# Altium integrated library Displays.IntLib: 6 symbols
Pins are listed as number, name and electrical type; pins without a type are passive.

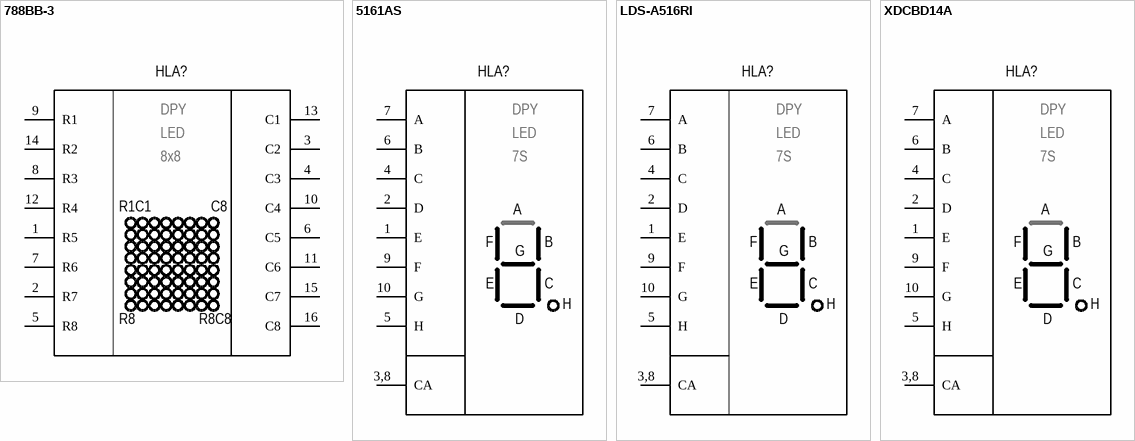
[diagram p0: symbols 788BB-3 to XDCBD14A]

## 788BB-3
designator HLA?, comment Blue  (value not drawn)
Display Segmental LED8x8 1.9mm Blue TH; Part name: 788BB-3; Group: Digital - Displays -  Segmental; Wavelength: 460nm; Common pin: Row Common Anode; Forward current: 20mA; Package: DIP-16 (15.00mm); Color: Blue; Dimension: 19.75mm x 19.75mm; Thickness: 5.90mm; Operating Temperature: -40°C +85°C; Mounting Type: Through Hole
footprint DISPLAY LED MATRIX 8x8 1.9 DIP-16
pins: 1 R5, 2 R7, 3 C2, 4 C3, 5 R8, 6 C5, 7 R6, 8 R3, 9 R1, 10 C4, 11 C6, 12 R4, 13 C1, 14 R2, 15 C7, 16 C8
text: DPY; LED; 8x8; R1C1; R8C8

## 5161AS
designator HLA?, comment Blue  (value not drawn)
Display Segmental LED7 0.56(14.22) Red CC TH; Part name: 5161AS; Group: Digital - Displays -  Segmental; Common pin: Common Anode; Forward current: 30mA; Package: DIP-10 (15.24mm); Color: Blue; Dimension: 19.05mm x 12.70mm; Thickness: 8.00mm; Operating Temperature: -40°C +85°C; Mounting Type: Through Hole
footprint Display LED Segment 7 0.56 DIP-10
pins: 1 E, 2 D, 3,8 CA, 4 C, 5 H, 6 B, 7 A, 9 F, 10 G
text: DPY; LED; 7S

## LDS-A516RI
designator HLA?, comment Red  (value not drawn)
Display Segmental LED7 0.56(14.22) Red CA TH; Manufacturer: Lumex; Part name: LDS-A516RI; Group: Digital - Displays -  Segmental; Common pin: Common Anode; Forward current: 30mA; Package: DIP-10 (15.24mm); Color: Red; Dimension: 19.05mm x 12.70mm; Thickness: 8.00mm; Operating Temperature: -40°C +85°C; Mounting Type: Through Hole
footprint Display LED Segment 7 0.56 DIP-10
pins: 1 E, 2 D, 3,8 CA, 4 C, 5 H, 6 B, 7 A, 9 F, 10 G
text: DPY; LED; 7S

## XDCBD14A
designator HLA?, comment Blue  (value not drawn)
Display Segmental LED7 0.56(14.22) Blue CA TH; Manufacturer: SunLED; Part name: XDCBD14A; Group: Digital - Displays -  Segmental; Common pin: Common Anode; Forward current: 30mA; Package: DIP-10 (15.24mm); Color: Blue; Dimension: 19.05mm x 12.70mm; Thickness: 8.00mm; Operating Temperature: -40°C +85°C; Mounting Type: Through Hole
footprint Display LED Segment 7 0.56 DIP-10
pins: 1 E, 2 D, 3,8 CA, 4 C, 5 H, 6 B, 7 A, 9 F, 10 G
text: DPY; LED; 7S


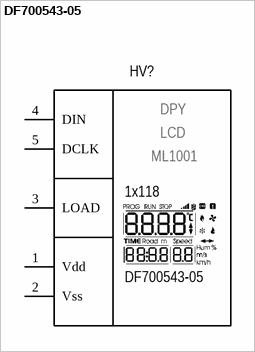
[diagram p1: symbol DF700543-05]

## DF700543-05
designator HV?
Display Segmental LCD128 Special; Group: Digital - Displays -  Segmental; Forward current: 50mA; Driver: ML1001; Package: DF700543-05; Part name: DF700543-05; Color: Black; Dimension: 48.53mm x 41.00mm; Thickness: 6.00mm; Operating Temperature: -40°C +85°C; Mounting Type: Through Hole
footprint Display LCD Segment 128 DF700543-05
pins: 1 Vdd, 2 Vss, 3 LOAD, 4 DIN, 5 DCLK
text: DPY; LCD; 1x118


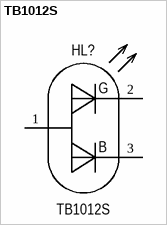
[diagram p2: symbol TB1012S]

## TB1012S
designator HL?
Display Backlight LED GB CA; Group: Display - Backlight; Color: Green, Blue; Forward Current: 250mA; Forward Voltage: 3.0V; Package: TB1012S; Part name: TB1012S; Operating Temperature: -30°C +70°C; Mounting Type: Through Hole; Dimension: 55.00mm x 33.00mm; Thickness: 3.20mm
footprint Display Backlight LED TB1012S
pins: 1 CA, 2 GREEN, 3 BLUE
text: G; B